# EAGLE library part IRFH7191 (library 2016PowerPackLibraries)
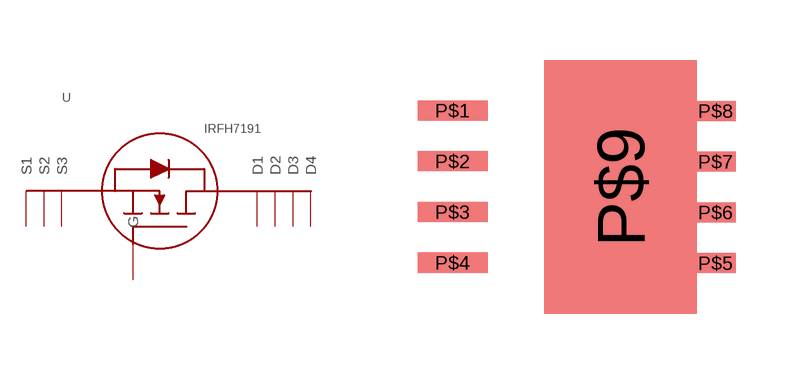
[diagram p4: symbol with the pads of PQFN5X6B; footprint PQFN5X6B]

Designator prefix -

## IRFH7191  [PQFN5X6B]
P$1  S1
P$2  S2
P$3  S3
P$4  G
P$5  D1
P$6  D2
P$7  D3
P$8  D4
P$9  D1

## Footprint PQFN5X6B (pad centres in mm)
smd 1.75 x 0.5: P$1 -4.2,1.91; P$2 -4.2,0.64; P$3 -4.2,-0.63; P$4 -4.2,-1.9
smd 1 x 0.5: P$5 2.375,-1.91; P$6 2.375,-0.64; P$7 2.375,0.63; P$8 2.375,1.9
smd 3.81 x 6.35: P$9 0,0